# Altium schematic symbol library LT3518.SchLib: 2 symbols
Pins are listed as number, name and electrical type; pins without a type are passive.

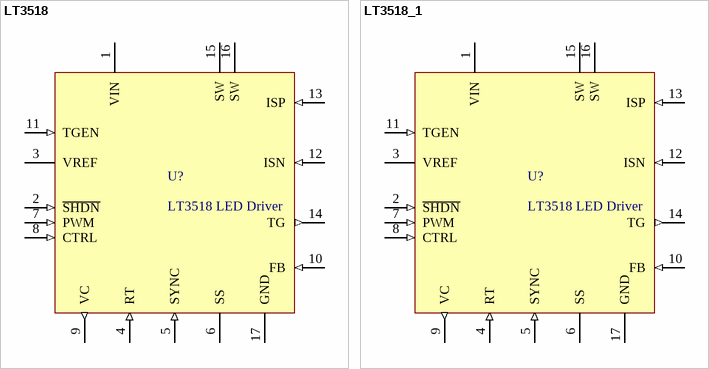
[diagram p0: symbols LT3518 to LT3518_1]

## LT3518
designator U?, comment LT3518 LED Driver
LT3518 Full-Featured LED Driver  with 2.3A Switch Current
footprint TSOP65P640X110_HS-16N (TSOP, 16-Leads, Body 5.3x4.7mm (max), Pitch 0.65mm, IPC Medium Density)
pins: 1 VIN (power) "Input Supply Pin. Must be locally bypassed.", 2 ~{SHDN} (in) "Shutdown Pin. Tie to 1.5V or higher to enable device or 0.4V or less to disable device.", 3 VREF (power) "2V Reference Output Pin. This pin can supply up to  100uA.", 4 RT (in) "Switching Frequency Adjustment Pin. Set switching  frequency using a resistor to GND (see Typical Performance  Characteristics for values). For SYNC function, choose  the resistor to program a frequency 20% slower than the  SYNC pulse frequency. Do not l", 5 SYNC (in) "Frequency Synchronization Pin. Tie an external  clock signal here. RT resistor should be chosen to program  a switching frequency 20% slower than SYNC pulse  frequency. Synchronization (power switch turn-on) occurs  a fi xed delay after the rising edge o", 6 SS "Soft-Start Pin. Place a soft-start capacitor here. Leave  the pin open if not in use.", 7 PWM (in) "Pulse Width Modulated Input Pin. Signal low turns  off channel, disables the main switch and makes the TG  pin high. Tie the PWM pin to SHDN pin if not used. There  is an equivalent 50k resistor from PWM pin to ground  internally.", 8 CTRL (in) "LED Current Adjustment Pin. Sets voltage across  sense resistor between ISP and ISN. Connect directly to  VREF for full-scale threshold of 100mV, or use signal values  between GND and 1V to modulate LED current. Tie the CTRL  pin to the VREF pin if not u", 9 VC (out) "gm Error Amplifi er Output Pin. Stabilize the loop with  an RC network or compensating C.", 10 FB (in) "Voltage Loop Feedback Pin. Works as overvoltage  protection for LED drivers. If FB is higher than 1V, the  main switch is turned off.", 11 TGEN (in) "Top Gate Enable Input Pin. Tie to 1.5V or higher  to enable the PMOS driver function. Tie the TGEN pin to  ground if TG function is not used. There is an equivalent  40k resistor from TGEN pin to ground internally.", 12 ISN (in) "Current Sense (-) Pin. The inverting input to the  current sense amplifi er.", 13 ISP (in) "Current Sense (+) Pin. The noninverting input to the  current sense amplifi er. Also serves as positive rail for  TG pin driver.", 14 TG (out) "Top Gate Driver Output. An inverted PWM signal  drives series PMOS device between VISP and  (VISP – 7V). An internal 7V clamp protects the VISP PMOS  gate. Leave TG unconnected if not used.", 15 SW (oc) "Switch Pin. Minimize trace at this pin to reduce  EMI.", 16 SW (oc) "Switch Pin. Minimize trace at this pin to reduce  EMI.", 17 GND (power) "Exposed Pad. Solder paddle directly to ground  plane."

## LT3518_1
designator U?, comment LT3518 LED Driver
LT3518 Full-Featured LED Driver  with 2.3A Switch Current
footprint TSOP65P640X110_HS-16N (TSOP, 16-Leads, Body 5.3x4.7mm (max), Pitch 0.65mm, IPC Medium Density)
pins: 1 VIN (power) "Input Supply Pin. Must be locally bypassed.", 2 ~{SHDN} (in) "Shutdown Pin. Tie to 1.5V or higher to enable device or 0.4V or less to disable device.", 3 VREF (power) "2V Reference Output Pin. This pin can supply up to  100uA.", 4 RT (in) "Switching Frequency Adjustment Pin. Set switching  frequency using a resistor to GND (see Typical Performance  Characteristics for values). For SYNC function, choose  the resistor to program a frequency 20% slower than the  SYNC pulse frequency. Do not l", 5 SYNC (in) "Frequency Synchronization Pin. Tie an external  clock signal here. RT resistor should be chosen to program  a switching frequency 20% slower than SYNC pulse  frequency. Synchronization (power switch turn-on) occurs  a fi xed delay after the rising edge o", 6 SS "Soft-Start Pin. Place a soft-start capacitor here. Leave  the pin open if not in use.", 7 PWM (in) "Pulse Width Modulated Input Pin. Signal low turns  off channel, disables the main switch and makes the TG  pin high. Tie the PWM pin to SHDN pin if not used. There  is an equivalent 50k resistor from PWM pin to ground  internally.", 8 CTRL (in) "LED Current Adjustment Pin. Sets voltage across  sense resistor between ISP and ISN. Connect directly to  VREF for full-scale threshold of 100mV, or use signal values  between GND and 1V to modulate LED current. Tie the CTRL  pin to the VREF pin if not u", 9 VC (out) "gm Error Amplifi er Output Pin. Stabilize the loop with  an RC network or compensating C.", 10 FB (in) "Voltage Loop Feedback Pin. Works as overvoltage  protection for LED drivers. If FB is higher than 1V, the  main switch is turned off.", 11 TGEN (in) "Top Gate Enable Input Pin. Tie to 1.5V or higher  to enable the PMOS driver function. Tie the TGEN pin to  ground if TG function is not used. There is an equivalent  40k resistor from TGEN pin to ground internally.", 12 ISN (in) "Current Sense (-) Pin. The inverting input to the  current sense amplifi er.", 13 ISP (in) "Current Sense (+) Pin. The noninverting input to the  current sense amplifi er. Also serves as positive rail for  TG pin driver.", 14 TG (out) "Top Gate Driver Output. An inverted PWM signal  drives series PMOS device between VISP and  (VISP – 7V). An internal 7V clamp protects the VISP PMOS  gate. Leave TG unconnected if not used.", 15 SW (oc) "Switch Pin. Minimize trace at this pin to reduce  EMI.", 16 SW (oc) "Switch Pin. Minimize trace at this pin to reduce  EMI.", 17 GND (power) "Exposed Pad. Solder paddle directly to ground  plane."